# Altium schematic symbol library ADG3233.SchLib: 1 symbol
Pins are listed as number, name and electrical type; pins without a type are passive.

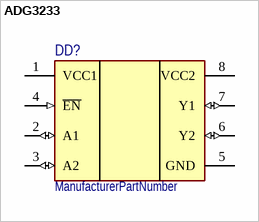
[diagram p0: symbol ADG3233]

## ADG3233
designator DD?  (value not drawn)
ManufacturerPartNumber: ManufacturerPartNumber
pins: 1 VCC1 (power), 2 A1 (io), 3 A2 (io), 4 ~{EN} (in), 5 GND (power), 6 Y2 (io), 7 Y1 (io), 8 VCC2 (power)